# Altium schematic symbol library kmilo17pet-NSC_MiscPower.SchLib: 1552 symbols (part 9 of 43)
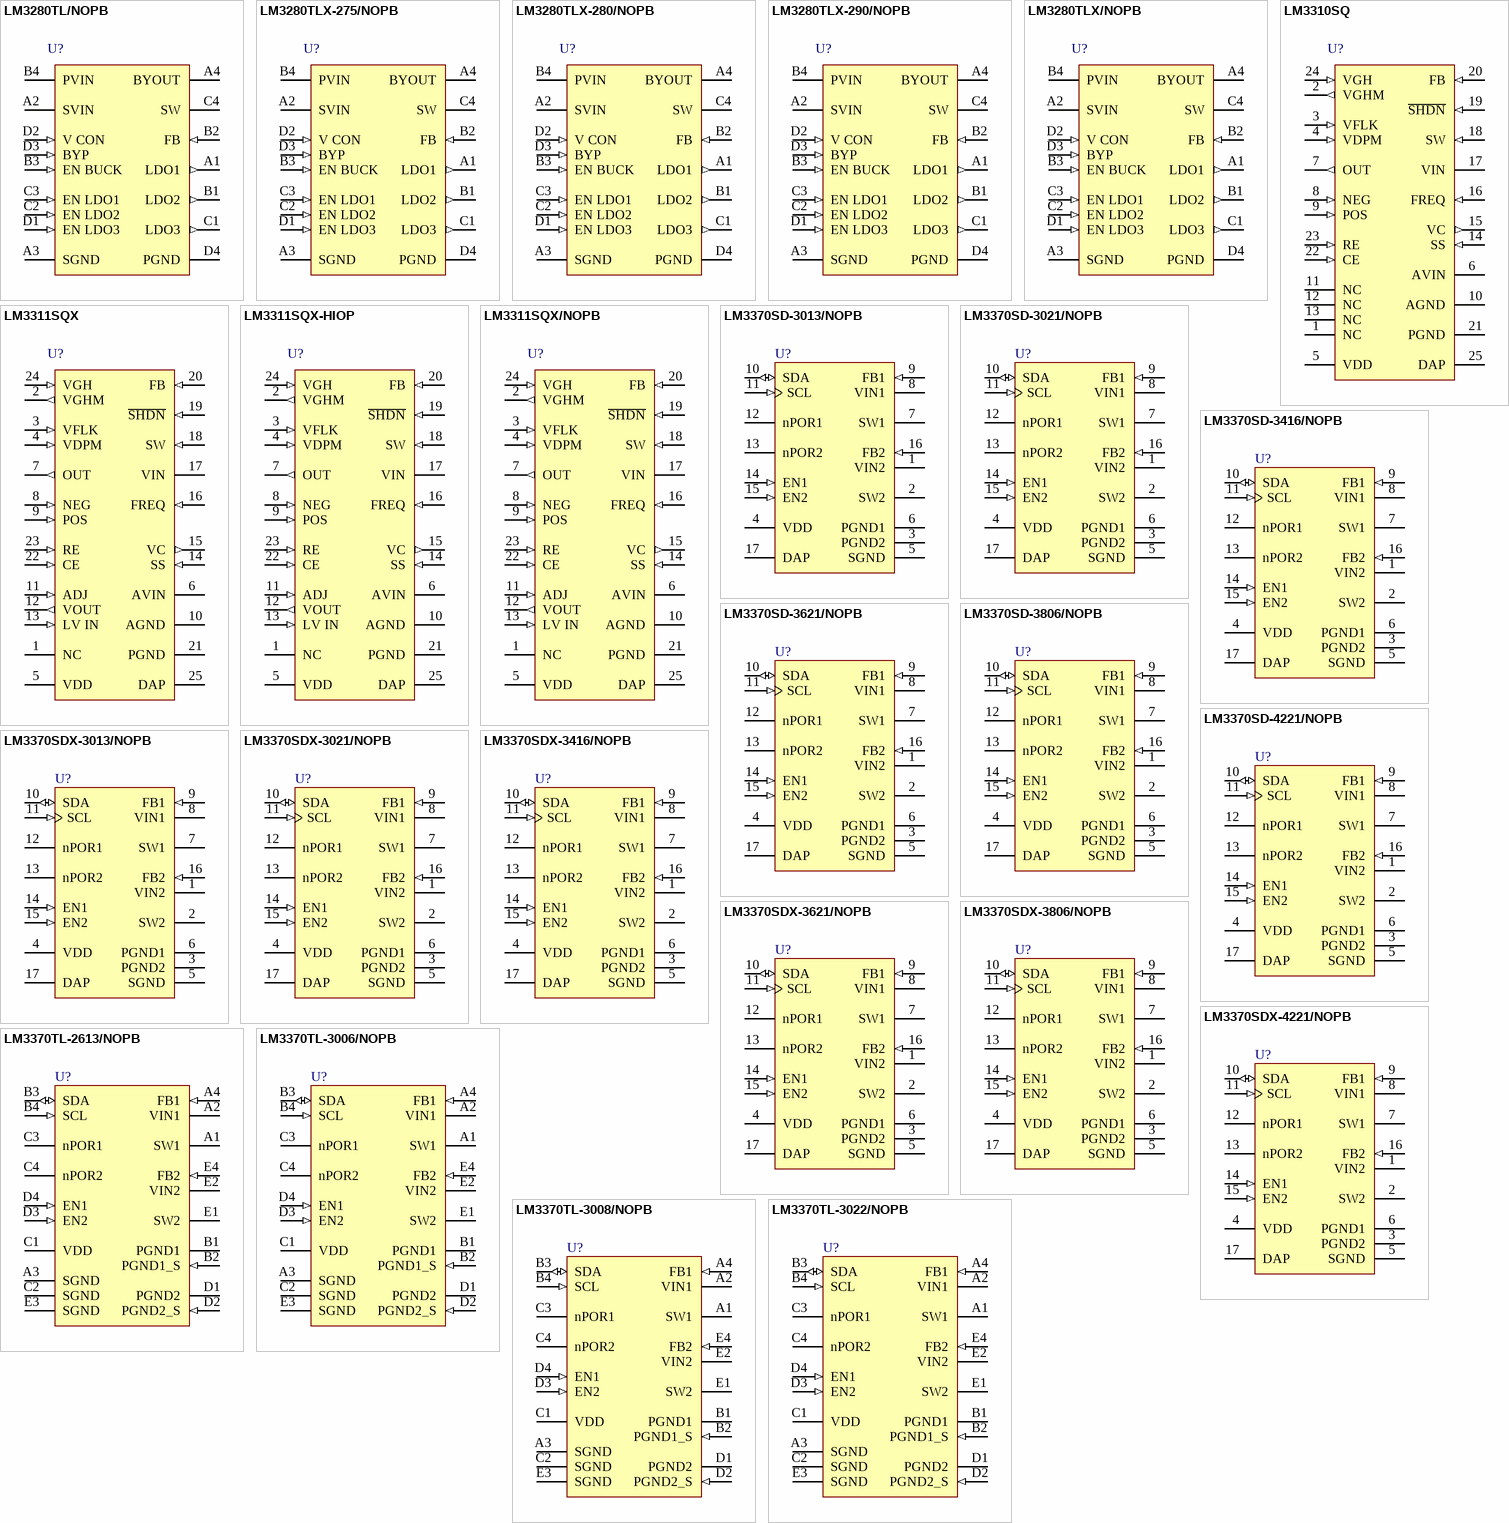
[diagram p65: symbols LM3280TL/NOPB to LM3370TL-3022/NOPB]

## LM3370SDX-3416/NOPB
designator U?
Dual Synchronous Step-Down DC-DC Converter with Dynamic Voltage Scaling Function, 16-pin LLP, Pb-Free; PartNumber: LM3370SDX-3416/NOPB; Manufacturer: National Semiconductor; PackageTopMarking: NS*UZXYTT*S0003VB; PowerWise: Y; CompType: MiscPower; DatasheetVersion: Jan-2008; PackageVersion: revA, Dec-2004; PackageReference: SDA16B; PackageDescription: LLP, Plastic, Dual, 5 x 4 x 0.8mm, 16 Lead, 0.5mm Pitch, No Pullback; RoHS: Y; PinCount: 16; High-Reliability: Y; ComponentLink1Description: Manufacturer URL; ComponentLink1URL: http://www.national.com/; ComponentLink2Description: LM3370 Datasheet; ComponentLink2URL: http://www.national.com/ds/LM/LM3370.pdf; ComponentLink3Description: LM3370 Web Page; ComponentLink3URL: http://www.national.com/pf/LM/LM3370.html; ComponentLink4Description: SDA16B Package Page; ComponentLink4URL: http://www.national.com/packaging/folders/sda16b.html
footprint SDA16B (SON, 16-Leads, Body 5x4mm, Pitch 0.5mm, NSC Recommended)
pins: 1 VIN2 (power) "Power supply voltage input to PFET and NFET switches for Buck 2", 2 SW2 (power) "Buck 2 Switch Pin", 3 PGND2 (power) "Buck 2 Power Ground", 4 VDD (power) "Signal supply voltage input, VDDmust be equal or greater of the two inputs (VIN1& VIN2)", 5 SGND (power) "Signal GND", 6 PGND1 (power) "Buck 1 Power Ground", 7 SW1 (power) "Buck 1 Switch Pin", 8 VIN1 (power) "Power supply voltage input to PFET and NFET switches for Buck 1", 9 FB1 (in) "Analog Feedback Input for Buck 1", 10 SDA (io) "I2C Compatible Data, a 2 kOhm pull up resistor is required", 11 SCL (in) "I2C Compatible Clock, a 2 kOhm pull up resistor is required", 12 nPOR1 (oc) "Power ON Reset for Buck 1, Open drain output Low when Buck 1 output is 92% of target output.", 13 nPOR2 (oc) "Power ON Reset for Buck 2, Open drain output Low when Buck 2 output is 92% of target output.", 14 EN1 (in) "Buck 1 Enable", 15 EN2 (in) "Buck 2 Enable", 16 FB2 (in) "Analog feedback for Buck 2", 17 DAP (power)

## LM3370SDX-3621/NOPB
designator U?
Dual Synchronous Step-Down DC-DC Converter with Dynamic Voltage Scaling Function, 16-pin LLP, Pb-Free; PartNumber: LM3370SDX-3621/NOPB; Manufacturer: National Semiconductor; PackageTopMarking: NS*UZXYTT*S0004AB; PowerWise: N; CompType: MiscPower; High-Reliability: Y; DatasheetVersion: Jan-2008; PackageVersion: revA, Dec-2004; PackageReference: SDA16B; PackageDescription: LLP, Plastic, Dual, 5 x 4 x 0.8mm, 16 Lead, 0.5mm Pitch, No Pullback; RoHS: Y; PinCount: 16; ComponentLink1Description: Manufacturer URL; ComponentLink1URL: http://www.national.com/; ComponentLink2Description: LM3370 Datasheet; ComponentLink2URL: http://www.national.com/ds/LM/LM3370.pdf; ComponentLink3Description: LM3370 Web Page; ComponentLink3URL: http://www.national.com/pf/LM/LM3370.html; ComponentLink4Description: SDA16B Package Page; ComponentLink4URL: http://www.national.com/packaging/folders/sda16b.html
footprint SDA16B (SON, 16-Leads, Body 5x4mm, Pitch 0.5mm, NSC Recommended)
pins: 1 VIN2 (power) "Power supply voltage input to PFET and NFET switches for Buck 2", 2 SW2 (power) "Buck 2 Switch Pin", 3 PGND2 (power) "Buck 2 Power Ground", 4 VDD (power) "Signal supply voltage input, VDDmust be equal or greater of the two inputs (VIN1& VIN2)", 5 SGND (power) "Signal GND", 6 PGND1 (power) "Buck 1 Power Ground", 7 SW1 (power) "Buck 1 Switch Pin", 8 VIN1 (power) "Power supply voltage input to PFET and NFET switches for Buck 1", 9 FB1 (in) "Analog Feedback Input for Buck 1", 10 SDA (io) "I2C Compatible Data, a 2 kOhm pull up resistor is required", 11 SCL (in) "I2C Compatible Clock, a 2 kOhm pull up resistor is required", 12 nPOR1 (oc) "Power ON Reset for Buck 1, Open drain output Low when Buck 1 output is 92% of target output.", 13 nPOR2 (oc) "Power ON Reset for Buck 2, Open drain output Low when Buck 2 output is 92% of target output.", 14 EN1 (in) "Buck 1 Enable", 15 EN2 (in) "Buck 2 Enable", 16 FB2 (in) "Analog feedback for Buck 2", 17 DAP (power)

## LM3370SDX-3806/NOPB
designator U?
Dual Synchronous Step-Down DC-DC Converter with Dynamic Voltage Scaling Function, 16-pin LLP, Pb-Free; PartNumber: LM3370SDX-3806/NOPB; Manufacturer: National Semiconductor; PackageTopMarking: NS*UZXYTT*S0003XB; PowerWise: Y; CompType: MiscPower; DatasheetVersion: Jan-2008; PackageVersion: revA, Dec-2004; PackageReference: SDA16B; PackageDescription: LLP, Plastic, Dual, 5 x 4 x 0.8mm, 16 Lead, 0.5mm Pitch, No Pullback; RoHS: Y; PinCount: 16; High-Reliability: Y; ComponentLink1Description: Manufacturer URL; ComponentLink1URL: http://www.national.com/; ComponentLink2Description: LM3370 Datasheet; ComponentLink2URL: http://www.national.com/ds/LM/LM3370.pdf; ComponentLink3Description: LM3370 Web Page; ComponentLink3URL: http://www.national.com/pf/LM/LM3370.html; ComponentLink4Description: SDA16B Package Page; ComponentLink4URL: http://www.national.com/packaging/folders/sda16b.html
footprint SDA16B (SON, 16-Leads, Body 5x4mm, Pitch 0.5mm, NSC Recommended)
pins: 1 VIN2 (power) "Power supply voltage input to PFET and NFET switches for Buck 2", 2 SW2 (power) "Buck 2 Switch Pin", 3 PGND2 (power) "Buck 2 Power Ground", 4 VDD (power) "Signal supply voltage input, VDDmust be equal or greater of the two inputs (VIN1& VIN2)", 5 SGND (power) "Signal GND", 6 PGND1 (power) "Buck 1 Power Ground", 7 SW1 (power) "Buck 1 Switch Pin", 8 VIN1 (power) "Power supply voltage input to PFET and NFET switches for Buck 1", 9 FB1 (in) "Analog Feedback Input for Buck 1", 10 SDA (io) "I2C Compatible Data, a 2 kOhm pull up resistor is required", 11 SCL (in) "I2C Compatible Clock, a 2 kOhm pull up resistor is required", 12 nPOR1 (oc) "Power ON Reset for Buck 1, Open drain output Low when Buck 1 output is 92% of target output.", 13 nPOR2 (oc) "Power ON Reset for Buck 2, Open drain output Low when Buck 2 output is 92% of target output.", 14 EN1 (in) "Buck 1 Enable", 15 EN2 (in) "Buck 2 Enable", 16 FB2 (in) "Analog feedback for Buck 2", 17 DAP (power)

## LM3370SDX-4221/NOPB
designator U?
Dual Synchronous Step-Down DC-DC Converter with Dynamic Voltage Scaling Function, 16-pin LLP, Pb-Free; PartNumber: LM3370SDX-4221/NOPB; Manufacturer: National Semiconductor; PackageTopMarking: NS*UZXYTT*S0003YB; PowerWise: Y; CompType: MiscPower; DatasheetVersion: Jan-2008; PackageVersion: revA, Dec-2004; PackageReference: SDA16B; PackageDescription: LLP, Plastic, Dual, 5 x 4 x 0.8mm, 16 Lead, 0.5mm Pitch, No Pullback; RoHS: Y; PinCount: 16; High-Reliability: Y; ComponentLink1Description: Manufacturer URL; ComponentLink1URL: http://www.national.com/; ComponentLink2Description: LM3370 Datasheet; ComponentLink2URL: http://www.national.com/ds/LM/LM3370.pdf; ComponentLink3Description: LM3370 Web Page; ComponentLink3URL: http://www.national.com/pf/LM/LM3370.html; ComponentLink4Description: SDA16B Package Page; ComponentLink4URL: http://www.national.com/packaging/folders/sda16b.html
footprint SDA16B (SON, 16-Leads, Body 5x4mm, Pitch 0.5mm, NSC Recommended)
pins: 1 VIN2 (power) "Power supply voltage input to PFET and NFET switches for Buck 2", 2 SW2 (power) "Buck 2 Switch Pin", 3 PGND2 (power) "Buck 2 Power Ground", 4 VDD (power) "Signal supply voltage input, VDDmust be equal or greater of the two inputs (VIN1& VIN2)", 5 SGND (power) "Signal GND", 6 PGND1 (power) "Buck 1 Power Ground", 7 SW1 (power) "Buck 1 Switch Pin", 8 VIN1 (power) "Power supply voltage input to PFET and NFET switches for Buck 1", 9 FB1 (in) "Analog Feedback Input for Buck 1", 10 SDA (io) "I2C Compatible Data, a 2 kOhm pull up resistor is required", 11 SCL (in) "I2C Compatible Clock, a 2 kOhm pull up resistor is required", 12 nPOR1 (oc) "Power ON Reset for Buck 1, Open drain output Low when Buck 1 output is 92% of target output.", 13 nPOR2 (oc) "Power ON Reset for Buck 2, Open drain output Low when Buck 2 output is 92% of target output.", 14 EN1 (in) "Buck 1 Enable", 15 EN2 (in) "Buck 2 Enable", 16 FB2 (in) "Analog feedback for Buck 2", 17 DAP (power)

## LM3370TL-2613/NOPB
designator U?
Dual Synchronous Step-Down DC-DC Converter with Dynamic Voltage Scaling Function, 20-pin Micro SMD, Pb-Free; PartNumber: LM3370TL-2613/NOPB; Manufacturer: National Semiconductor; PackageTopMarking: XYTT*I SD1B; PowerWise: N; CompType: MiscPower; High-Reliability: Y; DatasheetVersion: Aug-2011; PackageVersion: revC, Jan-2004; PackageReference: TLA20DWA; PackageDescription: Thin Micro SMD, 20 Bump (Large), 0.5mm Pitch; RoHS: Y; PinCount: 20; Code_JEDEC: MO-211-DG; ComponentLink1Description: Manufacturer URL; ComponentLink1URL: http://www.national.com/; ComponentLink2Description: LM3370 Datasheet; ComponentLink2URL: http://www.national.com/ds/LM/LM3370.pdf; ComponentLink3Description: LM3370 Web Page; ComponentLink3URL: http://www.national.com/pf/LM/LM3370.html; ComponentLink4Description: TLA20DWA Package Page; ComponentLink4URL: http://www.national.com/packaging/folders/tla20dwa.html
footprint TLA20DWA (Micro SMD, 20-Leads, Body 3x2.05mm, Pitch 0.5mm, NSC Recommended)
pins: A1 SW1 (power) "Buck 1 Switch Pin", A2 VIN1 (power) "Power supply voltage input to PFET and NFET switches for Buck 1", A3 SGND (power) "Signal GND", A4 FB1 (in) "Analog Feedback Input for Buck 1", B1 PGND1 (power) "Buck 1 Power Ground", B2 PGND1_S (in) "Buck 1 Power Ground Sense", B3 SDA (io) "I2C Compatible Data, a 2 kOhm pull up resistor is required", B4 SCL (in) "I2C Compatible Clock, a 2 kOhm pull up resistor is required", C1 VDD (power) "Signal supply voltage input.", C2 SGND (power) "Signal GND", C3 nPOR1 (oc) "Power ON Reset for Buck 1, Open drain output Low when Buck 1 output is 92% of target output.", C4 nPOR2 (oc) "Power ON Reset for Buck 2, Open drain output Low when Buck 2 output is 92% of target output.", D1 PGND2 (power) "Buck 2 Power Ground", D2 PGND2_S (in) "Buck 2 Power Ground Sense", D3 EN2 (in) "Buck 2 Enable", D4 EN1 (in) "Buck 1 Enable", E1 SW2 (power) "Buck 2 Switch Pin", E2 VIN2 (power) "Power supply voltage input to PFET and NFET switches for Buck 2", E3 SGND (power) "Signal GND", E4 FB2 (in) "Analog feedback for Buck 2"

## LM3370TL-3006/NOPB
designator U?
Dual Synchronous Step-Down DC-DC Converter with Dynamic Voltage Scaling Function, 20-pin Micro SMD, Pb-Free, 250 Reel; PartNumber: LM3370TL-3006/NOPB; Manufacturer: National Semiconductor; PackageTopMarking: XYTT*I SPUB; PowerWise: Y; CompType: MiscPower; DatasheetVersion: Aug-2011; PackageVersion: revC, Jan-2004; PackageReference: TLA20DWA; PackageDescription: Thin Micro SMD, 20 Bump (Large), 0.5mm Pitch; RoHS: Y; PinCount: 20; High-Reliability: Y; Code_JEDEC: MO-211-DG; ComponentLink1Description: Manufacturer URL; ComponentLink1URL: http://www.national.com/; ComponentLink2Description: LM3370 Datasheet; ComponentLink2URL: http://www.national.com/ds/LM/LM3370.pdf; ComponentLink3Description: LM3370 Web Page; ComponentLink3URL: http://www.national.com/pf/LM/LM3370.html; ComponentLink4Description: TLA20DWA Package Page; ComponentLink4URL: http://www.national.com/packaging/folders/tla20dwa.html
footprint TLA20DWA (Micro SMD, 20-Leads, Body 3x2.05mm, Pitch 0.5mm, NSC Recommended)
pins: A1 SW1 (power) "Buck 1 Switch Pin", A2 VIN1 (power) "Power supply voltage input to PFET and NFET switches for Buck 1", A3 SGND (power) "Signal GND", A4 FB1 (in) "Analog Feedback Input for Buck 1", B1 PGND1 (power) "Buck 1 Power Ground", B2 PGND1_S (in) "Buck 1 Power Ground Sense", B3 SDA (io) "I2C Compatible Data, a 2 kOhm pull up resistor is required", B4 SCL (in) "I2C Compatible Clock, a 2 kOhm pull up resistor is required", C1 VDD (power) "Signal supply voltage input.", C2 SGND (power) "Signal GND", C3 nPOR1 (oc) "Power ON Reset for Buck 1, Open drain output Low when Buck 1 output is 92% of target output.", C4 nPOR2 (oc) "Power ON Reset for Buck 2, Open drain output Low when Buck 2 output is 92% of target output.", D1 PGND2 (power) "Buck 2 Power Ground", D2 PGND2_S (in) "Buck 2 Power Ground Sense", D3 EN2 (in) "Buck 2 Enable", D4 EN1 (in) "Buck 1 Enable", E1 SW2 (power) "Buck 2 Switch Pin", E2 VIN2 (power) "Power supply voltage input to PFET and NFET switches for Buck 2", E3 SGND (power) "Signal GND", E4 FB2 (in) "Analog feedback for Buck 2"

## LM3370TL-3008/NOPB
designator U?
Dual Synchronous Step-Down DC-DC Converter with Dynamic Voltage Scaling Function, 20-pin Micro SMD, Pb-Free, 250 Reel; PartNumber: LM3370TL-3008/NOPB; Manufacturer: National Semiconductor; PackageTopMarking: XYTT*I SPTB; PowerWise: Y; CompType: MiscPower; DatasheetVersion: Aug-2011; PackageVersion: revC, Jan-2004; PackageReference: TLA20DWA; PackageDescription: Thin Micro SMD, 20 Bump (Large), 0.5mm Pitch; RoHS: Y; PinCount: 20; High-Reliability: Y; Code_JEDEC: MO-211-DG; ComponentLink1Description: Manufacturer URL; ComponentLink1URL: http://www.national.com/; ComponentLink2Description: LM3370 Datasheet; ComponentLink2URL: http://www.national.com/ds/LM/LM3370.pdf; ComponentLink3Description: LM3370 Web Page; ComponentLink3URL: http://www.national.com/pf/LM/LM3370.html; ComponentLink4Description: TLA20DWA Package Page; ComponentLink4URL: http://www.national.com/packaging/folders/tla20dwa.html
footprint TLA20DWA (Micro SMD, 20-Leads, Body 3x2.05mm, Pitch 0.5mm, NSC Recommended)
pins: A1 SW1 (power) "Buck 1 Switch Pin", A2 VIN1 (power) "Power supply voltage input to PFET and NFET switches for Buck 1", A3 SGND (power) "Signal GND", A4 FB1 (in) "Analog Feedback Input for Buck 1", B1 PGND1 (power) "Buck 1 Power Ground", B2 PGND1_S (in) "Buck 1 Power Ground Sense", B3 SDA (io) "I2C Compatible Data, a 2 kOhm pull up resistor is required", B4 SCL (in) "I2C Compatible Clock, a 2 kOhm pull up resistor is required", C1 VDD (power) "Signal supply voltage input.", C2 SGND (power) "Signal GND", C3 nPOR1 (oc) "Power ON Reset for Buck 1, Open drain output Low when Buck 1 output is 92% of target output.", C4 nPOR2 (oc) "Power ON Reset for Buck 2, Open drain output Low when Buck 2 output is 92% of target output.", D1 PGND2 (power) "Buck 2 Power Ground", D2 PGND2_S (in) "Buck 2 Power Ground Sense", D3 EN2 (in) "Buck 2 Enable", D4 EN1 (in) "Buck 1 Enable", E1 SW2 (power) "Buck 2 Switch Pin", E2 VIN2 (power) "Power supply voltage input to PFET and NFET switches for Buck 2", E3 SGND (power) "Signal GND", E4 FB2 (in) "Analog feedback for Buck 2"

## LM3370TL-3022/NOPB
designator U?
Dual Synchronous Step-Down DC-DC Converter with Dynamic Voltage Scaling Function, 20-pin Micro SMD, Pb-Free, 250 Reel; PartNumber: LM3370TL-3022/NOPB; Manufacturer: National Semiconductor; PackageTopMarking: XYTT*I STHB; PowerWise: N; CompType: MiscPower; High-Reliability: Y; DatasheetVersion: Aug-2011; PackageVersion: revC, Jan-2004; PackageReference: TLA20DWA; PackageDescription: Thin Micro SMD, 20 Bump (Large), 0.5mm Pitch; RoHS: Y; PinCount: 20; Code_JEDEC: MO-211-DG; ComponentLink1Description: Manufacturer URL; ComponentLink1URL: http://www.national.com/; ComponentLink2Description: LM3370 Datasheet; ComponentLink2URL: http://www.national.com/ds/LM/LM3370.pdf; ComponentLink3Description: LM3370 Web Page; ComponentLink3URL: http://www.national.com/pf/LM/LM3370.html; ComponentLink4Description: TLA20DWA Package Page; ComponentLink4URL: http://www.national.com/packaging/folders/tla20dwa.html
footprint TLA20DWA (Micro SMD, 20-Leads, Body 3x2.05mm, Pitch 0.5mm, NSC Recommended)
pins: A1 SW1 (power) "Buck 1 Switch Pin", A2 VIN1 (power) "Power supply voltage input to PFET and NFET switches for Buck 1", A3 SGND (power) "Signal GND", A4 FB1 (in) "Analog Feedback Input for Buck 1", B1 PGND1 (power) "Buck 1 Power Ground", B2 PGND1_S (in) "Buck 1 Power Ground Sense", B3 SDA (io) "I2C Compatible Data, a 2 kOhm pull up resistor is required", B4 SCL (in) "I2C Compatible Clock, a 2 kOhm pull up resistor is required", C1 VDD (power) "Signal supply voltage input.", C2 SGND (power) "Signal GND", C3 nPOR1 (oc) "Power ON Reset for Buck 1, Open drain output Low when Buck 1 output is 92% of target output.", C4 nPOR2 (oc) "Power ON Reset for Buck 2, Open drain output Low when Buck 2 output is 92% of target output.", D1 PGND2 (power) "Buck 2 Power Ground", D2 PGND2_S (in) "Buck 2 Power Ground Sense", D3 EN2 (in) "Buck 2 Enable", D4 EN1 (in) "Buck 1 Enable", E1 SW2 (power) "Buck 2 Switch Pin", E2 VIN2 (power) "Power supply voltage input to PFET and NFET switches for Buck 2", E3 SGND (power) "Signal GND", E4 FB2 (in) "Analog feedback for Buck 2"

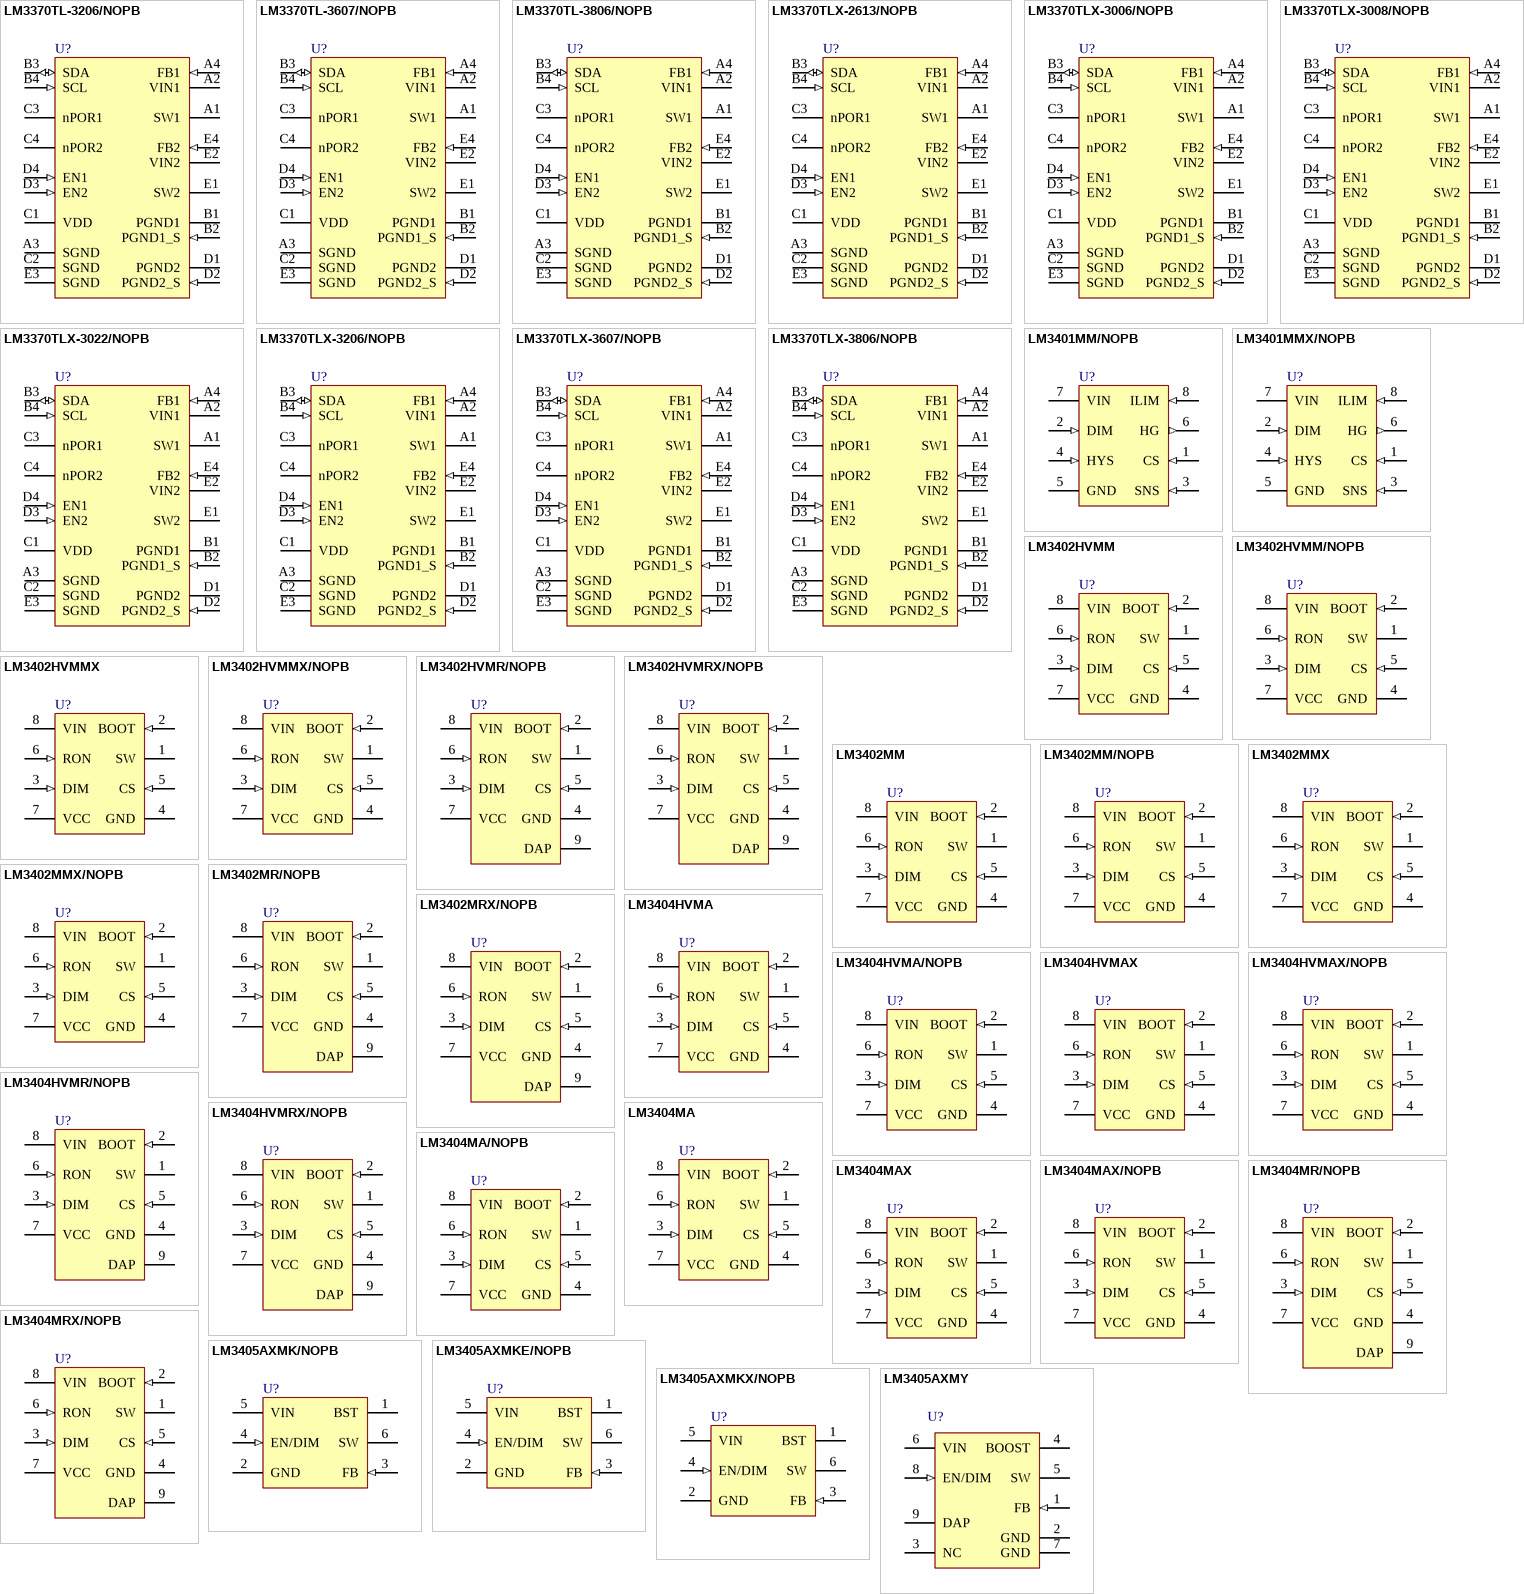
[diagram p10: symbols LM3370TL-3206/NOPB to LM3405AXMY]

## LM3370TL-3206/NOPB
designator U?
Dual Synchronous Step-Down DC-DC Converter with Dynamic Voltage Scaling Function, 20-pin Micro SMD, Pb-Free, 250 Reel; PartNumber: LM3370TL-3206/NOPB; Manufacturer: National Semiconductor; PackageTopMarking: XYTT*I SPXB; PowerWise: Y; CompType: MiscPower; DatasheetVersion: Aug-2011; PackageVersion: revC, Jan-2004; PackageReference: TLA20DWA; PackageDescription: Thin Micro SMD, 20 Bump (Large), 0.5mm Pitch; RoHS: Y; PinCount: 20; High-Reliability: Y; Code_JEDEC: MO-211-DG; ComponentLink1Description: Manufacturer URL; ComponentLink1URL: http://www.national.com/; ComponentLink2Description: LM3370 Datasheet; ComponentLink2URL: http://www.national.com/ds/LM/LM3370.pdf; ComponentLink3Description: LM3370 Web Page; ComponentLink3URL: http://www.national.com/pf/LM/LM3370.html; ComponentLink4Description: TLA20DWA Package Page; ComponentLink4URL: http://www.national.com/packaging/folders/tla20dwa.html
footprint TLA20DWA (Micro SMD, 20-Leads, Body 3x2.05mm, Pitch 0.5mm, NSC Recommended)
pins: A1 SW1 (power) "Buck 1 Switch Pin", A2 VIN1 (power) "Power supply voltage input to PFET and NFET switches for Buck 1", A3 SGND (power) "Signal GND", A4 FB1 (in) "Analog Feedback Input for Buck 1", B1 PGND1 (power) "Buck 1 Power Ground", B2 PGND1_S (in) "Buck 1 Power Ground Sense", B3 SDA (io) "I2C Compatible Data, a 2 kOhm pull up resistor is required", B4 SCL (in) "I2C Compatible Clock, a 2 kOhm pull up resistor is required", C1 VDD (power) "Signal supply voltage input.", C2 SGND (power) "Signal GND", C3 nPOR1 (oc) "Power ON Reset for Buck 1, Open drain output Low when Buck 1 output is 92% of target output.", C4 nPOR2 (oc) "Power ON Reset for Buck 2, Open drain output Low when Buck 2 output is 92% of target output.", D1 PGND2 (power) "Buck 2 Power Ground", D2 PGND2_S (in) "Buck 2 Power Ground Sense", D3 EN2 (in) "Buck 2 Enable", D4 EN1 (in) "Buck 1 Enable", E1 SW2 (power) "Buck 2 Switch Pin", E2 VIN2 (power) "Power supply voltage input to PFET and NFET switches for Buck 2", E3 SGND (power) "Signal GND", E4 FB2 (in) "Analog feedback for Buck 2"

## LM3370TL-3607/NOPB
designator U?
Dual Synchronous Step-Down DC-DC Converter with Dynamic Voltage Scaling Function, 20-pin Micro SMD, Pb-Free, 250 Reel; PartNumber: LM3370TL-3607/NOPB; Manufacturer: National Semiconductor; PackageTopMarking: XYTT*I SPSB; PowerWise: Y; CompType: MiscPower; DatasheetVersion: Aug-2011; PackageVersion: revC, Jan-2004; PackageReference: TLA20DWA; PackageDescription: Thin Micro SMD, 20 Bump (Large), 0.5mm Pitch; RoHS: Y; PinCount: 20; High-Reliability: Y; Code_JEDEC: MO-211-DG; ComponentLink1Description: Manufacturer URL; ComponentLink1URL: http://www.national.com/; ComponentLink2Description: LM3370 Datasheet; ComponentLink2URL: http://www.national.com/ds/LM/LM3370.pdf; ComponentLink3Description: LM3370 Web Page; ComponentLink3URL: http://www.national.com/pf/LM/LM3370.html; ComponentLink4Description: TLA20DWA Package Page; ComponentLink4URL: http://www.national.com/packaging/folders/tla20dwa.html
footprint TLA20DWA (Micro SMD, 20-Leads, Body 3x2.05mm, Pitch 0.5mm, NSC Recommended)
pins: A1 SW1 (power) "Buck 1 Switch Pin", A2 VIN1 (power) "Power supply voltage input to PFET and NFET switches for Buck 1", A3 SGND (power) "Signal GND", A4 FB1 (in) "Analog Feedback Input for Buck 1", B1 PGND1 (power) "Buck 1 Power Ground", B2 PGND1_S (in) "Buck 1 Power Ground Sense", B3 SDA (io) "I2C Compatible Data, a 2 kOhm pull up resistor is required", B4 SCL (in) "I2C Compatible Clock, a 2 kOhm pull up resistor is required", C1 VDD (power) "Signal supply voltage input.", C2 SGND (power) "Signal GND", C3 nPOR1 (oc) "Power ON Reset for Buck 1, Open drain output Low when Buck 1 output is 92% of target output.", C4 nPOR2 (oc) "Power ON Reset for Buck 2, Open drain output Low when Buck 2 output is 92% of target output.", D1 PGND2 (power) "Buck 2 Power Ground", D2 PGND2_S (in) "Buck 2 Power Ground Sense", D3 EN2 (in) "Buck 2 Enable", D4 EN1 (in) "Buck 1 Enable", E1 SW2 (power) "Buck 2 Switch Pin", E2 VIN2 (power) "Power supply voltage input to PFET and NFET switches for Buck 2", E3 SGND (power) "Signal GND", E4 FB2 (in) "Analog feedback for Buck 2"

## LM3370TL-3806/NOPB
designator U?
Dual Synchronous Step-Down DC-DC Converter with Dynamic Voltage Scaling Function, 20-pin Micro SMD, Pb-Free, 250 Reel; PartNumber: LM3370TL-3806/NOPB; Manufacturer: National Semiconductor; PackageTopMarking: XYTT*I SPVB; PowerWise: Y; CompType: MiscPower; DatasheetVersion: Aug-2011; PackageVersion: revC, Jan-2004; PackageReference: TLA20DWA; PackageDescription: Thin Micro SMD, 20 Bump (Large), 0.5mm Pitch; RoHS: Y; PinCount: 20; High-Reliability: Y; Code_JEDEC: MO-211-DG; ComponentLink1Description: Manufacturer URL; ComponentLink1URL: http://www.national.com/; ComponentLink2Description: LM3370 Datasheet; ComponentLink2URL: http://www.national.com/ds/LM/LM3370.pdf; ComponentLink3Description: LM3370 Web Page; ComponentLink3URL: http://www.national.com/pf/LM/LM3370.html; ComponentLink4Description: TLA20DWA Package Page; ComponentLink4URL: http://www.national.com/packaging/folders/tla20dwa.html
footprint TLA20DWA (Micro SMD, 20-Leads, Body 3x2.05mm, Pitch 0.5mm, NSC Recommended)
pins: A1 SW1 (power) "Buck 1 Switch Pin", A2 VIN1 (power) "Power supply voltage input to PFET and NFET switches for Buck 1", A3 SGND (power) "Signal GND", A4 FB1 (in) "Analog Feedback Input for Buck 1", B1 PGND1 (power) "Buck 1 Power Ground", B2 PGND1_S (in) "Buck 1 Power Ground Sense", B3 SDA (io) "I2C Compatible Data, a 2 kOhm pull up resistor is required", B4 SCL (in) "I2C Compatible Clock, a 2 kOhm pull up resistor is required", C1 VDD (power) "Signal supply voltage input.", C2 SGND (power) "Signal GND", C3 nPOR1 (oc) "Power ON Reset for Buck 1, Open drain output Low when Buck 1 output is 92% of target output.", C4 nPOR2 (oc) "Power ON Reset for Buck 2, Open drain output Low when Buck 2 output is 92% of target output.", D1 PGND2 (power) "Buck 2 Power Ground", D2 PGND2_S (in) "Buck 2 Power Ground Sense", D3 EN2 (in) "Buck 2 Enable", D4 EN1 (in) "Buck 1 Enable", E1 SW2 (power) "Buck 2 Switch Pin", E2 VIN2 (power) "Power supply voltage input to PFET and NFET switches for Buck 2", E3 SGND (power) "Signal GND", E4 FB2 (in) "Analog feedback for Buck 2"

## LM3370TLX-2613/NOPB
designator U?
Dual Synchronous Step-Down DC-DC Converter with Dynamic Voltage Scaling Function, 20-pin Micro SMD, Pb-Free; PartNumber: LM3370TLX-2613/NOPB; Manufacturer: National Semiconductor; PackageTopMarking: XYTT*I SD1B; PowerWise: N; CompType: MiscPower; High-Reliability: Y; DatasheetVersion: Aug-2011; PackageVersion: revC, Jan-2004; PackageReference: TLA20DWA; PackageDescription: Thin Micro SMD, 20 Bump (Large), 0.5mm Pitch; RoHS: Y; PinCount: 20; Code_JEDEC: MO-211-DG; ComponentLink1Description: Manufacturer URL; ComponentLink1URL: http://www.national.com/; ComponentLink2Description: LM3370 Datasheet; ComponentLink2URL: http://www.national.com/ds/LM/LM3370.pdf; ComponentLink3Description: LM3370 Web Page; ComponentLink3URL: http://www.national.com/pf/LM/LM3370.html; ComponentLink4Description: TLA20DWA Package Page; ComponentLink4URL: http://www.national.com/packaging/folders/tla20dwa.html
footprint TLA20DWA (Micro SMD, 20-Leads, Body 3x2.05mm, Pitch 0.5mm, NSC Recommended)
pins: A1 SW1 (power) "Buck 1 Switch Pin", A2 VIN1 (power) "Power supply voltage input to PFET and NFET switches for Buck 1", A3 SGND (power) "Signal GND", A4 FB1 (in) "Analog Feedback Input for Buck 1", B1 PGND1 (power) "Buck 1 Power Ground", B2 PGND1_S (in) "Buck 1 Power Ground Sense", B3 SDA (io) "I2C Compatible Data, a 2 kOhm pull up resistor is required", B4 SCL (in) "I2C Compatible Clock, a 2 kOhm pull up resistor is required", C1 VDD (power) "Signal supply voltage input.", C2 SGND (power) "Signal GND", C3 nPOR1 (oc) "Power ON Reset for Buck 1, Open drain output Low when Buck 1 output is 92% of target output.", C4 nPOR2 (oc) "Power ON Reset for Buck 2, Open drain output Low when Buck 2 output is 92% of target output.", D1 PGND2 (power) "Buck 2 Power Ground", D2 PGND2_S (in) "Buck 2 Power Ground Sense", D3 EN2 (in) "Buck 2 Enable", D4 EN1 (in) "Buck 1 Enable", E1 SW2 (power) "Buck 2 Switch Pin", E2 VIN2 (power) "Power supply voltage input to PFET and NFET switches for Buck 2", E3 SGND (power) "Signal GND", E4 FB2 (in) "Analog feedback for Buck 2"

## LM3370TLX-3006/NOPB
designator U?
Dual Synchronous Step-Down DC-DC Converter with Dynamic Voltage Scaling Function, 20-pin Micro SMD, Pb-Free, 3000 Reel; PartNumber: LM3370TLX-3006/NOPB; Manufacturer: National Semiconductor; PackageTopMarking: XYTT*I SPUB; PowerWise: Y; CompType: MiscPower; DatasheetVersion: Aug-2011; PackageVersion: revC, Jan-2004; PackageReference: TLA20DWA; PackageDescription: Thin Micro SMD, 20 Bump (Large), 0.5mm Pitch; RoHS: Y; PinCount: 20; High-Reliability: Y; Code_JEDEC: MO-211-DG; ComponentLink1Description: Manufacturer URL; ComponentLink1URL: http://www.national.com/; ComponentLink2Description: LM3370 Datasheet; ComponentLink2URL: http://www.national.com/ds/LM/LM3370.pdf; ComponentLink3Description: LM3370 Web Page; ComponentLink3URL: http://www.national.com/pf/LM/LM3370.html; ComponentLink4Description: TLA20DWA Package Page; ComponentLink4URL: http://www.national.com/packaging/folders/tla20dwa.html
footprint TLA20DWA (Micro SMD, 20-Leads, Body 3x2.05mm, Pitch 0.5mm, NSC Recommended)
pins: A1 SW1 (power) "Buck 1 Switch Pin", A2 VIN1 (power) "Power supply voltage input to PFET and NFET switches for Buck 1", A3 SGND (power) "Signal GND", A4 FB1 (in) "Analog Feedback Input for Buck 1", B1 PGND1 (power) "Buck 1 Power Ground", B2 PGND1_S (in) "Buck 1 Power Ground Sense", B3 SDA (io) "I2C Compatible Data, a 2 kOhm pull up resistor is required", B4 SCL (in) "I2C Compatible Clock, a 2 kOhm pull up resistor is required", C1 VDD (power) "Signal supply voltage input.", C2 SGND (power) "Signal GND", C3 nPOR1 (oc) "Power ON Reset for Buck 1, Open drain output Low when Buck 1 output is 92% of target output.", C4 nPOR2 (oc) "Power ON Reset for Buck 2, Open drain output Low when Buck 2 output is 92% of target output.", D1 PGND2 (power) "Buck 2 Power Ground", D2 PGND2_S (in) "Buck 2 Power Ground Sense", D3 EN2 (in) "Buck 2 Enable", D4 EN1 (in) "Buck 1 Enable", E1 SW2 (power) "Buck 2 Switch Pin", E2 VIN2 (power) "Power supply voltage input to PFET and NFET switches for Buck 2", E3 SGND (power) "Signal GND", E4 FB2 (in) "Analog feedback for Buck 2"

## LM3370TLX-3008/NOPB
designator U?
Dual Synchronous Step-Down DC-DC Converter with Dynamic Voltage Scaling Function, 20-pin Micro SMD, Pb-Free, 3000 Reel; PartNumber: LM3370TLX-3008/NOPB; Manufacturer: National Semiconductor; PackageTopMarking: XYTT*I SPTB; PowerWise: Y; CompType: MiscPower; DatasheetVersion: Aug-2011; PackageVersion: revC, Jan-2004; PackageReference: TLA20DWA; PackageDescription: Thin Micro SMD, 20 Bump (Large), 0.5mm Pitch; RoHS: Y; PinCount: 20; High-Reliability: Y; Code_JEDEC: MO-211-DG; ComponentLink1Description: Manufacturer URL; ComponentLink1URL: http://www.national.com/; ComponentLink2Description: LM3370 Datasheet; ComponentLink2URL: http://www.national.com/ds/LM/LM3370.pdf; ComponentLink3Description: LM3370 Web Page; ComponentLink3URL: http://www.national.com/pf/LM/LM3370.html; ComponentLink4Description: TLA20DWA Package Page; ComponentLink4URL: http://www.national.com/packaging/folders/tla20dwa.html
footprint TLA20DWA (Micro SMD, 20-Leads, Body 3x2.05mm, Pitch 0.5mm, NSC Recommended)
pins: A1 SW1 (power) "Buck 1 Switch Pin", A2 VIN1 (power) "Power supply voltage input to PFET and NFET switches for Buck 1", A3 SGND (power) "Signal GND", A4 FB1 (in) "Analog Feedback Input for Buck 1", B1 PGND1 (power) "Buck 1 Power Ground", B2 PGND1_S (in) "Buck 1 Power Ground Sense", B3 SDA (io) "I2C Compatible Data, a 2 kOhm pull up resistor is required", B4 SCL (in) "I2C Compatible Clock, a 2 kOhm pull up resistor is required", C1 VDD (power) "Signal supply voltage input.", C2 SGND (power) "Signal GND", C3 nPOR1 (oc) "Power ON Reset for Buck 1, Open drain output Low when Buck 1 output is 92% of target output.", C4 nPOR2 (oc) "Power ON Reset for Buck 2, Open drain output Low when Buck 2 output is 92% of target output.", D1 PGND2 (power) "Buck 2 Power Ground", D2 PGND2_S (in) "Buck 2 Power Ground Sense", D3 EN2 (in) "Buck 2 Enable", D4 EN1 (in) "Buck 1 Enable", E1 SW2 (power) "Buck 2 Switch Pin", E2 VIN2 (power) "Power supply voltage input to PFET and NFET switches for Buck 2", E3 SGND (power) "Signal GND", E4 FB2 (in) "Analog feedback for Buck 2"

## LM3370TLX-3022/NOPB
designator U?
Dual Synchronous Step-Down DC-DC Converter with Dynamic Voltage Scaling Function, 20-pin Micro SMD, Pb-Free, 3000 Reel; PartNumber: LM3370TLX-3022/NOPB; Manufacturer: National Semiconductor; PackageTopMarking: XYTT*I STHB; PowerWise: N; CompType: MiscPower; High-Reliability: Y; DatasheetVersion: Aug-2011; PackageVersion: revC, Jan-2004; PackageReference: TLA20DWA; PackageDescription: Thin Micro SMD, 20 Bump (Large), 0.5mm Pitch; RoHS: Y; PinCount: 20; Code_JEDEC: MO-211-DG; ComponentLink1Description: Manufacturer URL; ComponentLink1URL: http://www.national.com/; ComponentLink2Description: LM3370 Datasheet; ComponentLink2URL: http://www.national.com/ds/LM/LM3370.pdf; ComponentLink3Description: LM3370 Web Page; ComponentLink3URL: http://www.national.com/pf/LM/LM3370.html; ComponentLink4Description: TLA20DWA Package Page; ComponentLink4URL: http://www.national.com/packaging/folders/tla20dwa.html
footprint TLA20DWA (Micro SMD, 20-Leads, Body 3x2.05mm, Pitch 0.5mm, NSC Recommended)
pins: A1 SW1 (power) "Buck 1 Switch Pin", A2 VIN1 (power) "Power supply voltage input to PFET and NFET switches for Buck 1", A3 SGND (power) "Signal GND", A4 FB1 (in) "Analog Feedback Input for Buck 1", B1 PGND1 (power) "Buck 1 Power Ground", B2 PGND1_S (in) "Buck 1 Power Ground Sense", B3 SDA (io) "I2C Compatible Data, a 2 kOhm pull up resistor is required", B4 SCL (in) "I2C Compatible Clock, a 2 kOhm pull up resistor is required", C1 VDD (power) "Signal supply voltage input.", C2 SGND (power) "Signal GND", C3 nPOR1 (oc) "Power ON Reset for Buck 1, Open drain output Low when Buck 1 output is 92% of target output.", C4 nPOR2 (oc) "Power ON Reset for Buck 2, Open drain output Low when Buck 2 output is 92% of target output.", D1 PGND2 (power) "Buck 2 Power Ground", D2 PGND2_S (in) "Buck 2 Power Ground Sense", D3 EN2 (in) "Buck 2 Enable", D4 EN1 (in) "Buck 1 Enable", E1 SW2 (power) "Buck 2 Switch Pin", E2 VIN2 (power) "Power supply voltage input to PFET and NFET switches for Buck 2", E3 SGND (power) "Signal GND", E4 FB2 (in) "Analog feedback for Buck 2"

## LM3370TLX-3206/NOPB
designator U?
Dual Synchronous Step-Down DC-DC Converter with Dynamic Voltage Scaling Function, 20-pin Micro SMD, Pb-Free, 3000 Reel; PartNumber: LM3370TLX-3206/NOPB; Manufacturer: National Semiconductor; PackageTopMarking: XYTT*I SPXB; PowerWise: Y; CompType: MiscPower; DatasheetVersion: Aug-2011; PackageVersion: revC, Jan-2004; PackageReference: TLA20DWA; PackageDescription: Thin Micro SMD, 20 Bump (Large), 0.5mm Pitch; RoHS: Y; PinCount: 20; High-Reliability: Y; Code_JEDEC: MO-211-DG; ComponentLink1Description: Manufacturer URL; ComponentLink1URL: http://www.national.com/; ComponentLink2Description: LM3370 Datasheet; ComponentLink2URL: http://www.national.com/ds/LM/LM3370.pdf; ComponentLink3Description: LM3370 Web Page; ComponentLink3URL: http://www.national.com/pf/LM/LM3370.html; ComponentLink4Description: TLA20DWA Package Page; ComponentLink4URL: http://www.national.com/packaging/folders/tla20dwa.html
footprint TLA20DWA (Micro SMD, 20-Leads, Body 3x2.05mm, Pitch 0.5mm, NSC Recommended)
pins: A1 SW1 (power) "Buck 1 Switch Pin", A2 VIN1 (power) "Power supply voltage input to PFET and NFET switches for Buck 1", A3 SGND (power) "Signal GND", A4 FB1 (in) "Analog Feedback Input for Buck 1", B1 PGND1 (power) "Buck 1 Power Ground", B2 PGND1_S (in) "Buck 1 Power Ground Sense", B3 SDA (io) "I2C Compatible Data, a 2 kOhm pull up resistor is required", B4 SCL (in) "I2C Compatible Clock, a 2 kOhm pull up resistor is required", C1 VDD (power) "Signal supply voltage input.", C2 SGND (power) "Signal GND", C3 nPOR1 (oc) "Power ON Reset for Buck 1, Open drain output Low when Buck 1 output is 92% of target output.", C4 nPOR2 (oc) "Power ON Reset for Buck 2, Open drain output Low when Buck 2 output is 92% of target output.", D1 PGND2 (power) "Buck 2 Power Ground", D2 PGND2_S (in) "Buck 2 Power Ground Sense", D3 EN2 (in) "Buck 2 Enable", D4 EN1 (in) "Buck 1 Enable", E1 SW2 (power) "Buck 2 Switch Pin", E2 VIN2 (power) "Power supply voltage input to PFET and NFET switches for Buck 2", E3 SGND (power) "Signal GND", E4 FB2 (in) "Analog feedback for Buck 2"

## LM3370TLX-3607/NOPB
designator U?
Dual Synchronous Step-Down DC-DC Converter with Dynamic Voltage Scaling Function, 20-pin Micro SMD, Pb-Free, 3000 Reel; PartNumber: LM3370TLX-3607/NOPB; Manufacturer: National Semiconductor; PackageTopMarking: XYTT*I SPSB; PowerWise: Y; CompType: MiscPower; DatasheetVersion: Aug-2011; PackageVersion: revC, Jan-2004; PackageReference: TLA20DWA; PackageDescription: Thin Micro SMD, 20 Bump (Large), 0.5mm Pitch; RoHS: Y; PinCount: 20; High-Reliability: Y; Code_JEDEC: MO-211-DG; ComponentLink1Description: Manufacturer URL; ComponentLink1URL: http://www.national.com/; ComponentLink2Description: LM3370 Datasheet; ComponentLink2URL: http://www.national.com/ds/LM/LM3370.pdf; ComponentLink3Description: LM3370 Web Page; ComponentLink3URL: http://www.national.com/pf/LM/LM3370.html; ComponentLink4Description: TLA20DWA Package Page; ComponentLink4URL: http://www.national.com/packaging/folders/tla20dwa.html
footprint TLA20DWA (Micro SMD, 20-Leads, Body 3x2.05mm, Pitch 0.5mm, NSC Recommended)
pins: A1 SW1 (power) "Buck 1 Switch Pin", A2 VIN1 (power) "Power supply voltage input to PFET and NFET switches for Buck 1", A3 SGND (power) "Signal GND", A4 FB1 (in) "Analog Feedback Input for Buck 1", B1 PGND1 (power) "Buck 1 Power Ground", B2 PGND1_S (in) "Buck 1 Power Ground Sense", B3 SDA (io) "I2C Compatible Data, a 2 kOhm pull up resistor is required", B4 SCL (in) "I2C Compatible Clock, a 2 kOhm pull up resistor is required", C1 VDD (power) "Signal supply voltage input.", C2 SGND (power) "Signal GND", C3 nPOR1 (oc) "Power ON Reset for Buck 1, Open drain output Low when Buck 1 output is 92% of target output.", C4 nPOR2 (oc) "Power ON Reset for Buck 2, Open drain output Low when Buck 2 output is 92% of target output.", D1 PGND2 (power) "Buck 2 Power Ground", D2 PGND2_S (in) "Buck 2 Power Ground Sense", D3 EN2 (in) "Buck 2 Enable", D4 EN1 (in) "Buck 1 Enable", E1 SW2 (power) "Buck 2 Switch Pin", E2 VIN2 (power) "Power supply voltage input to PFET and NFET switches for Buck 2", E3 SGND (power) "Signal GND", E4 FB2 (in) "Analog feedback for Buck 2"

## LM3370TLX-3806/NOPB
designator U?
Dual Synchronous Step-Down DC-DC Converter with Dynamic Voltage Scaling Function, 20-pin Micro SMD, Pb-Free, 3000 Reel; PartNumber: LM3370TLX-3806/NOPB; Manufacturer: National Semiconductor; PackageTopMarking: XYTT*I SPVB; PowerWise: Y; CompType: MiscPower; DatasheetVersion: Aug-2011; PackageVersion: revC, Jan-2004; PackageReference: TLA20DWA; PackageDescription: Thin Micro SMD, 20 Bump (Large), 0.5mm Pitch; RoHS: Y; PinCount: 20; High-Reliability: Y; Code_JEDEC: MO-211-DG; ComponentLink1Description: Manufacturer URL; ComponentLink1URL: http://www.national.com/; ComponentLink2Description: LM3370 Datasheet; ComponentLink2URL: http://www.national.com/ds/LM/LM3370.pdf; ComponentLink3Description: LM3370 Web Page; ComponentLink3URL: http://www.national.com/pf/LM/LM3370.html; ComponentLink4Description: TLA20DWA Package Page; ComponentLink4URL: http://www.national.com/packaging/folders/tla20dwa.html
footprint TLA20DWA (Micro SMD, 20-Leads, Body 3x2.05mm, Pitch 0.5mm, NSC Recommended)
pins: A1 SW1 (power) "Buck 1 Switch Pin", A2 VIN1 (power) "Power supply voltage input to PFET and NFET switches for Buck 1", A3 SGND (power) "Signal GND", A4 FB1 (in) "Analog Feedback Input for Buck 1", B1 PGND1 (power) "Buck 1 Power Ground", B2 PGND1_S (in) "Buck 1 Power Ground Sense", B3 SDA (io) "I2C Compatible Data, a 2 kOhm pull up resistor is required", B4 SCL (in) "I2C Compatible Clock, a 2 kOhm pull up resistor is required", C1 VDD (power) "Signal supply voltage input.", C2 SGND (power) "Signal GND", C3 nPOR1 (oc) "Power ON Reset for Buck 1, Open drain output Low when Buck 1 output is 92% of target output.", C4 nPOR2 (oc) "Power ON Reset for Buck 2, Open drain output Low when Buck 2 output is 92% of target output.", D1 PGND2 (power) "Buck 2 Power Ground", D2 PGND2_S (in) "Buck 2 Power Ground Sense", D3 EN2 (in) "Buck 2 Enable", D4 EN1 (in) "Buck 1 Enable", E1 SW2 (power) "Buck 2 Switch Pin", E2 VIN2 (power) "Power supply voltage input to PFET and NFET switches for Buck 2", E3 SGND (power) "Signal GND", E4 FB2 (in) "Analog feedback for Buck 2"

## LM3401MM/NOPB
designator U?
Hysteretic PFET Controller for High Power LED Drive, 8-pin MSOP, Pb-Free; PartNumber: LM3401MM/NOPB; Manufacturer: National Semiconductor; PackageTopMarking: ZXTT*SNHB; PowerWise: Y; CompType: MiscPower; DatasheetVersion: Mar-2008; PackageVersion: revF, Apr-2008; PackageReference: MUA08A; PackageDescription: MINI SOIC, .118 x .118 x .034in, 8 Lead, .0256in Pitch; RoHS: Y; PinCount: 8; High-Reliability: Y; Code_JEDEC: MO-187-AA; ComponentLink1Description: Manufacturer URL; ComponentLink1URL: http://www.national.com/; ComponentLink2Description: LM3401 Datasheet; ComponentLink2URL: http://www.national.com/ds/LM/LM3401.pdf; ComponentLink3Description: LM3401 Web Page; ComponentLink3URL: http://www.national.com/pf/LM/LM3401.html; ComponentLink4Description: MUA08A Package Page; ComponentLink4URL: http://www.national.com/packaging/folders/mua08a.html
footprint MUA08A_N (TSOP, 8-Leads, Body 3x3mm, Pitch 0.65mm, IPC Medium Density)
footprint MUA08A_L (TSOP, 8-Leads, Body 3x3mm, Pitch 0.65mm, IPC High Density)
footprint MUA08A_M (TSOP, 8-Leads, Body 3x3mm, Pitch 0.65mm, IPC Low Density)
pins: 1 CS (in), 2 DIM (in), 3 SNS (in), 4 HYS (in), 5 GND (power), 6 HG (out), 7 VIN (power), 8 ILIM (in)

## LM3401MMX/NOPB
designator U?
Hysteretic PFET Controller for High Power LED Drive, 8-pin MSOP, Pb-Free; PartNumber: LM3401MMX/NOPB; Manufacturer: National Semiconductor; PackageTopMarking: ZXTT*SNHB; PowerWise: Y; CompType: MiscPower; DatasheetVersion: Mar-2008; PackageVersion: revF, Apr-2008; PackageReference: MUA08A; PackageDescription: MINI SOIC, .118 x .118 x .034in, 8 Lead, .0256in Pitch; RoHS: Y; PinCount: 8; High-Reliability: Y; Code_JEDEC: MO-187-AA; ComponentLink1Description: Manufacturer URL; ComponentLink1URL: http://www.national.com/; ComponentLink2Description: LM3401 Datasheet; ComponentLink2URL: http://www.national.com/ds/LM/LM3401.pdf; ComponentLink3Description: LM3401 Web Page; ComponentLink3URL: http://www.national.com/pf/LM/LM3401.html; ComponentLink4Description: MUA08A Package Page; ComponentLink4URL: http://www.national.com/packaging/folders/mua08a.html
footprint MUA08A_N (TSOP, 8-Leads, Body 3x3mm, Pitch 0.65mm, IPC Medium Density)
footprint MUA08A_L (TSOP, 8-Leads, Body 3x3mm, Pitch 0.65mm, IPC High Density)
footprint MUA08A_M (TSOP, 8-Leads, Body 3x3mm, Pitch 0.65mm, IPC Low Density)
pins: 1 CS (in), 2 DIM (in), 3 SNS (in), 4 HYS (in), 5 GND (power), 6 HG (out), 7 VIN (power), 8 ILIM (in)

## LM3402HVMM
designator U?
0.5A Constant Current Buck Regulator for High Power LED Drivers, 8-pin MSOP; PartNumber: LM3402HVMM; Manufacturer: National Semiconductor; PackageTopMarking: ZXTT*SNFB; PowerWise: Y; CompType: MiscPower; DatasheetVersion: Feb-2010; PackageVersion: revF, Apr-2008; PackageReference: MUA08A; PackageDescription: MINI SOIC, .118 x .118 x .034in, 8 Lead, .0256in Pitch; RoHS: N; PinCount: 8; High-Reliability: Y; Code_JEDEC: MO-187-AA; ComponentLink1Description: Manufacturer URL; ComponentLink1URL: http://www.national.com/; ComponentLink2Description: LM3402HV Datasheet; ComponentLink2URL: http://www.national.com/ds/LM/LM3402HV.pdf; ComponentLink3Description: LM3402HV Web Page; ComponentLink3URL: http://www.national.com/pf/LM/LM3402HV.html; ComponentLink4Description: MUA08A Package Page; ComponentLink4URL: http://www.national.com/packaging/folders/mua08a.html
footprint MUA08A_N (TSOP, 8-Leads, Body 3x3mm, Pitch 0.65mm, IPC Medium Density)
footprint MUA08A_L (TSOP, 8-Leads, Body 3x3mm, Pitch 0.65mm, IPC High Density)
footprint MUA08A_M (TSOP, 8-Leads, Body 3x3mm, Pitch 0.65mm, IPC Low Density)
pins: 1 SW (power), 2 BOOT (in), 3 DIM (in), 4 GND (power), 5 CS (in), 6 RON (in), 7 VCC (power), 8 VIN (power)

## LM3402HVMM/NOPB
designator U?
0.5A Constant Current Buck Regulator for High Power LED Drivers, 8-pin MSOP, Pb-Free; PartNumber: LM3402HVMM/NOPB; Manufacturer: National Semiconductor; PackageTopMarking: ZXTT*SNFB; PowerWise: Y; CompType: MiscPower; DatasheetVersion: Jun-2007; PackageVersion: revF, Apr-2008; PackageReference: MUA08A; PackageDescription: MINI SOIC, .118 x .118 x .034in, 8 Lead, .0256in Pitch; RoHS: Y; PinCount: 8; High-Reliability: Y; Code_JEDEC: MO-187-AA; ComponentLink1Description: Manufacturer URL; ComponentLink1URL: http://www.national.com/; ComponentLink2Description: LM3402HV Datasheet; ComponentLink2URL: http://www.national.com/ds/LM/LM3402HV.pdf; ComponentLink3Description: LM3402HV Web Page; ComponentLink3URL: http://www.national.com/pf/LM/LM3402HV.html; ComponentLink4Description: MUA08A Package Page; ComponentLink4URL: http://www.national.com/packaging/folders/mua08a.html
footprint MUA08A_N (TSOP, 8-Leads, Body 3x3mm, Pitch 0.65mm, IPC Medium Density)
footprint MUA08A_L (TSOP, 8-Leads, Body 3x3mm, Pitch 0.65mm, IPC High Density)
footprint MUA08A_M (TSOP, 8-Leads, Body 3x3mm, Pitch 0.65mm, IPC Low Density)
pins: 1 SW (power), 2 BOOT (in), 3 DIM (in), 4 GND (power), 5 CS (in), 6 RON (in), 7 VCC (power), 8 VIN (power)

## LM3402HVMMX
designator U?
0.5A Constant Current Buck Regulator for High Power LED Drivers, 8-pin MSOP; PartNumber: LM3402HVMMX; Manufacturer: National Semiconductor; PackageTopMarking: ZXTT*SNFB; PowerWise: Y; CompType: MiscPower; DatasheetVersion: Jun-2007; PackageVersion: revF, Apr-2008; PackageReference: MUA08A; PackageDescription: MINI SOIC, .118 x .118 x .034in, 8 Lead, .0256in Pitch; RoHS: N; PinCount: 8; High-Reliability: Y; Code_JEDEC: MO-187-AA; ComponentLink1Description: Manufacturer URL; ComponentLink1URL: http://www.national.com/; ComponentLink2Description: LM3402HV Datasheet; ComponentLink2URL: http://www.national.com/ds/LM/LM3402HV.pdf; ComponentLink3Description: LM3402HV Web Page; ComponentLink3URL: http://www.national.com/pf/LM/LM3402HV.html; ComponentLink4Description: MUA08A Package Page; ComponentLink4URL: http://www.national.com/packaging/folders/mua08a.html
footprint MUA08A_N (TSOP, 8-Leads, Body 3x3mm, Pitch 0.65mm, IPC Medium Density)
footprint MUA08A_L (TSOP, 8-Leads, Body 3x3mm, Pitch 0.65mm, IPC High Density)
footprint MUA08A_M (TSOP, 8-Leads, Body 3x3mm, Pitch 0.65mm, IPC Low Density)
pins: 1 SW (power), 2 BOOT (in), 3 DIM (in), 4 GND (power), 5 CS (in), 6 RON (in), 7 VCC (power), 8 VIN (power)

## LM3402HVMMX/NOPB
designator U?
0.5A Constant Current Buck Regulator for High Power LED Drivers, 8-pin MSOP, Pb-Free; PartNumber: LM3402HVMMX/NOPB; Manufacturer: National Semiconductor; PackageTopMarking: ZXTT*SNFB; PowerWise: Y; CompType: MiscPower; DatasheetVersion: Jun-2007; PackageVersion: revF, Apr-2008; PackageReference: MUA08A; PackageDescription: MINI SOIC, .118 x .118 x .034in, 8 Lead, .0256in Pitch; RoHS: Y; PinCount: 8; High-Reliability: Y; Code_JEDEC: MO-187-AA; ComponentLink1Description: Manufacturer URL; ComponentLink1URL: http://www.national.com/; ComponentLink2Description: LM3402HV Datasheet; ComponentLink2URL: http://www.national.com/ds/LM/LM3402HV.pdf; ComponentLink3Description: LM3402HV Web Page; ComponentLink3URL: http://www.national.com/pf/LM/LM3402HV.html; ComponentLink4Description: MUA08A Package Page; ComponentLink4URL: http://www.national.com/packaging/folders/mua08a.html
footprint MUA08A_N (TSOP, 8-Leads, Body 3x3mm, Pitch 0.65mm, IPC Medium Density)
footprint MUA08A_L (TSOP, 8-Leads, Body 3x3mm, Pitch 0.65mm, IPC High Density)
footprint MUA08A_M (TSOP, 8-Leads, Body 3x3mm, Pitch 0.65mm, IPC Low Density)
pins: 1 SW (power), 2 BOOT (in), 3 DIM (in), 4 GND (power), 5 CS (in), 6 RON (in), 7 VCC (power), 8 VIN (power)

## LM3402HVMR/NOPB
designator U?
0.5A Constant Current Buck Regulator for High Power LED Drivers, 8-pin PSOP, Pb-Free; PartNumber: LM3402HVMR/NOPB; Manufacturer: National Semiconductor; PackageTopMarking: NSXYTT*L3402*HVMR; PowerWise: N; CompType: MiscPower; High-Reliability: Y; DatasheetVersion: Jun-2007; PackageVersion: revB, Dec-2007; PackageReference: MRA08B; PackageDescription: Molded, PSOP .193 x .154 x .058in, 8 Lead, .050in Pitch, Large DAP; RoHS: Y; PinCount: 8; Code_JEDEC: MS-012-AA; ComponentLink1Description: Manufacturer URL; ComponentLink1URL: http://www.national.com/; ComponentLink2Description: LM3402HV Datasheet; ComponentLink2URL: http://www.national.com/ds/LM/LM3402HV.pdf; ComponentLink3Description: LM3402HV Web Page; ComponentLink3URL: http://www.national.com/pf/LM/LM3402HV.html; ComponentLink4Description: MRA08B Package Page; ComponentLink4URL: http://www.national.com/packaging/folders/mra08b.html
footprint MRA08B_N (SOIC, 8-Leads, Body 4.9x3.9mm, Pitch 1.27mm, Thermal Pad, IPC Medium Density)
footprint MRA08B_L (SOIC, 8-Leads, Body 4.9x3.9mm, Pitch 1.27mm, Thermal Pad, IPC High Density)
footprint MRA08B_M (SOIC, 8-Leads, Body 4.9x3.9mm, Pitch 1.27mm, Thermal Pad, IPC Low Density)
pins: 1 SW (power), 2 BOOT (in), 3 DIM (in), 4 GND (power), 5 CS (in), 6 RON (in), 7 VCC (power), 8 VIN (power), 9 DAP (power)

## LM3402HVMRX/NOPB
designator U?
0.5A Constant Current Buck Regulator for High Power LED Drivers, 8-pin PSOP, Pb-Free; PartNumber: LM3402HVMRX/NOPB; Manufacturer: National Semiconductor; PackageTopMarking: NSXYTT*L3402*HVMR; PowerWise: N; CompType: MiscPower; High-Reliability: Y; DatasheetVersion: Jun-2007; PackageVersion: revB, Dec-2007; PackageReference: MRA08B; PackageDescription: Molded, PSOP .193 x .154 x .058in, 8 Lead, .050in Pitch, Large DAP; RoHS: Y; PinCount: 8; Code_JEDEC: MS-012-AA; ComponentLink1Description: Manufacturer URL; ComponentLink1URL: http://www.national.com/; ComponentLink2Description: LM3402HV Datasheet; ComponentLink2URL: http://www.national.com/ds/LM/LM3402HV.pdf; ComponentLink3Description: LM3402HV Web Page; ComponentLink3URL: http://www.national.com/pf/LM/LM3402HV.html; ComponentLink4Description: MRA08B Package Page; ComponentLink4URL: http://www.national.com/packaging/folders/mra08b.html
footprint MRA08B_N (SOIC, 8-Leads, Body 4.9x3.9mm, Pitch 1.27mm, Thermal Pad, IPC Medium Density)
footprint MRA08B_L (SOIC, 8-Leads, Body 4.9x3.9mm, Pitch 1.27mm, Thermal Pad, IPC High Density)
footprint MRA08B_M (SOIC, 8-Leads, Body 4.9x3.9mm, Pitch 1.27mm, Thermal Pad, IPC Low Density)
pins: 1 SW (power), 2 BOOT (in), 3 DIM (in), 4 GND (power), 5 CS (in), 6 RON (in), 7 VCC (power), 8 VIN (power), 9 DAP (power)

## LM3402MM
designator U?
0.5A Constant Current Buck Regulator for High Power LED Drivers, 8-pin MSOP; PartNumber: LM3402MM; Manufacturer: National Semiconductor; PackageTopMarking: ZXTT*SNEB; PowerWise: Y; CompType: MiscPower; DatasheetVersion: Feb-2010; PackageVersion: revF, Apr-2008; PackageReference: MUA08A; PackageDescription: MINI SOIC, .118 x .118 x .034in, 8 Lead, .0256in Pitch; RoHS: N; PinCount: 8; High-Reliability: Y; Code_JEDEC: MO-187-AA; ComponentLink1Description: Manufacturer URL; ComponentLink1URL: http://www.national.com/; ComponentLink2Description: LM3402 Datasheet; ComponentLink2URL: http://www.national.com/ds/LM/LM3402.pdf; ComponentLink3Description: LM3402 Web Page; ComponentLink3URL: http://www.national.com/pf/LM/LM3402.html; ComponentLink4Description: MUA08A Package Page; ComponentLink4URL: http://www.national.com/packaging/folders/mua08a.html
footprint MUA08A_N (TSOP, 8-Leads, Body 3x3mm, Pitch 0.65mm, IPC Medium Density)
footprint MUA08A_L (TSOP, 8-Leads, Body 3x3mm, Pitch 0.65mm, IPC High Density)
footprint MUA08A_M (TSOP, 8-Leads, Body 3x3mm, Pitch 0.65mm, IPC Low Density)
pins: 1 SW (power), 2 BOOT (in), 3 DIM (in), 4 GND (power), 5 CS (in), 6 RON (in), 7 VCC (power), 8 VIN (power)

## LM3402MM/NOPB
designator U?
0.5A Constant Current Buck Regulator for High Power LED Drivers, 8-pin MSOP, Pb-Free; PartNumber: LM3402MM/NOPB; Manufacturer: National Semiconductor; PackageTopMarking: ZXTT*SNEB; PowerWise: Y; CompType: MiscPower; DatasheetVersion: Jun-2007; PackageVersion: revF, Apr-2008; PackageReference: MUA08A; PackageDescription: MINI SOIC, .118 x .118 x .034in, 8 Lead, .0256in Pitch; RoHS: Y; PinCount: 8; High-Reliability: Y; Code_JEDEC: MO-187-AA; ComponentLink1Description: Manufacturer URL; ComponentLink1URL: http://www.national.com/; ComponentLink2Description: LM3402 Datasheet; ComponentLink2URL: http://www.national.com/ds/LM/LM3402.pdf; ComponentLink3Description: LM3402 Web Page; ComponentLink3URL: http://www.national.com/pf/LM/LM3402.html; ComponentLink4Description: MUA08A Package Page; ComponentLink4URL: http://www.national.com/packaging/folders/mua08a.html
footprint MUA08A_N (TSOP, 8-Leads, Body 3x3mm, Pitch 0.65mm, IPC Medium Density)
footprint MUA08A_L (TSOP, 8-Leads, Body 3x3mm, Pitch 0.65mm, IPC High Density)
footprint MUA08A_M (TSOP, 8-Leads, Body 3x3mm, Pitch 0.65mm, IPC Low Density)
pins: 1 SW (power), 2 BOOT (in), 3 DIM (in), 4 GND (power), 5 CS (in), 6 RON (in), 7 VCC (power), 8 VIN (power)